# EAGLE library part CON_01X06 (library PP_Connectors)
6 pin connectors
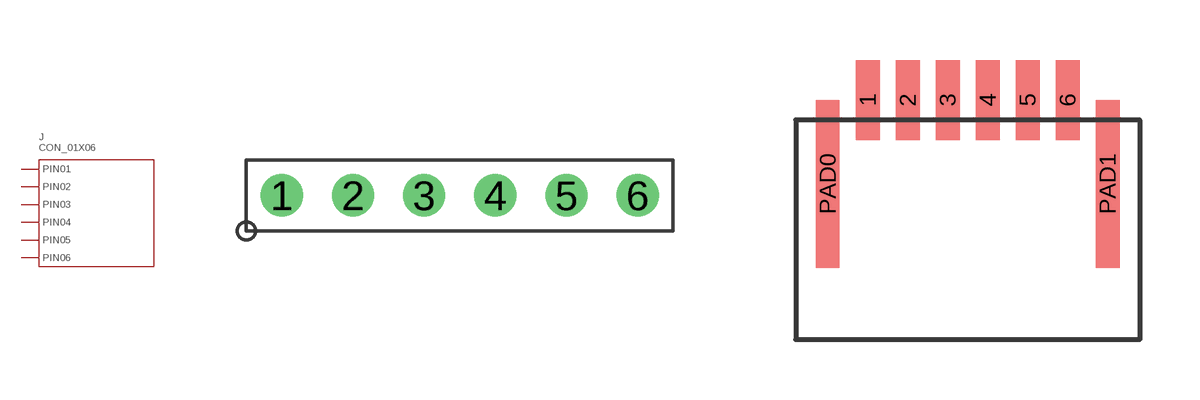
[diagram p0: symbol with the pads of 2.54MM_01X06_PIN_HEADER; footprints 2.54MM_01X06_PIN_HEADER, HFW6R-2STE1LF]

Designator prefix J

## CON_01X06_2.54MM_PIN_HEADER (POPULATE: 1)  [2.54MM_01X06_PIN_HEADER]
1  1  pas
2  2  pas
3  3  pas
4  4  pas
5  5  pas
6  6  pas

## CON_01X06_HFW6R-2STE1LF (POPULATE: 1)  [HFW6R-2STE1LF]
Pads as for 2.54MM_01X06_PIN_HEADER

## CON_01X06_NC5FBH (POPULATE: 1)  [NC5FBH]
1  1  pas
2  2  pas
3  3  pas
4  4  pas
5  5  pas
GND  6  pas

## CON_01X06_1775470-6 (POPULATE: 1)  [1775470-6]
P$1  1  pas
P$2  2  pas
P$3  3  pas
P$4  4  pas
P$5  5  pas
P$6  6  pas

## Footprint 2.54MM_01X06_PIN_HEADER (pad centres in mm)
6 pin header
drill 1: 1 -6.35,0; 2 -3.81,0; 3 -1.27,0; 4 1.27,0; 5 3.81,0; 6 6.35,0

## Footprint HFW6R-2STE1LF (pad centres in mm)
smd 0.6 x 2: 1 -2.5,0; 2 -1.5,0; 3 -0.5,0; 4 0.5,0; 5 1.5,0; 6 2.5,0
smd 0.6 x 4.2: PAD0 -3.5,-2.1; PAD1 3.5,-2.1

## Footprint NC5FBH (pad centres in mm)
drill 1.6: 1 -3.81,-17.15; 5 3.81,-17.15; P$6 3.81,-8.89; P$7 -3.81,-3.81
drill 1.2: 2 0,-13.335; 3 0,-17.15; 4 6.98,-13.335; GND -8.25,-6.98

## Footprint 1775470-6 (pad centres in mm)
smd 1 x 6.2: P$1 5,0; P$2 3,0; P$3 1,0; P$4 -1,0; P$5 -3,0; P$6 -5,0
smd 1.6 x 3: S0 -7.4,-2.4; S1 7.4,-2.4